# Altium footprint library SOIC18P127_1155X1030X265L83X41N.PcbLib: 1 footprints
Each footprint in its own frame and in the unit in brackets; x right, y up, seen from the top. Pads: shape width x height; smd on the part's side, far side on the other; paste and mask are expansions set on the pad; w line width, h text height; cw(c..) or ccw(c..) is an arc to the next point about the centre after c.
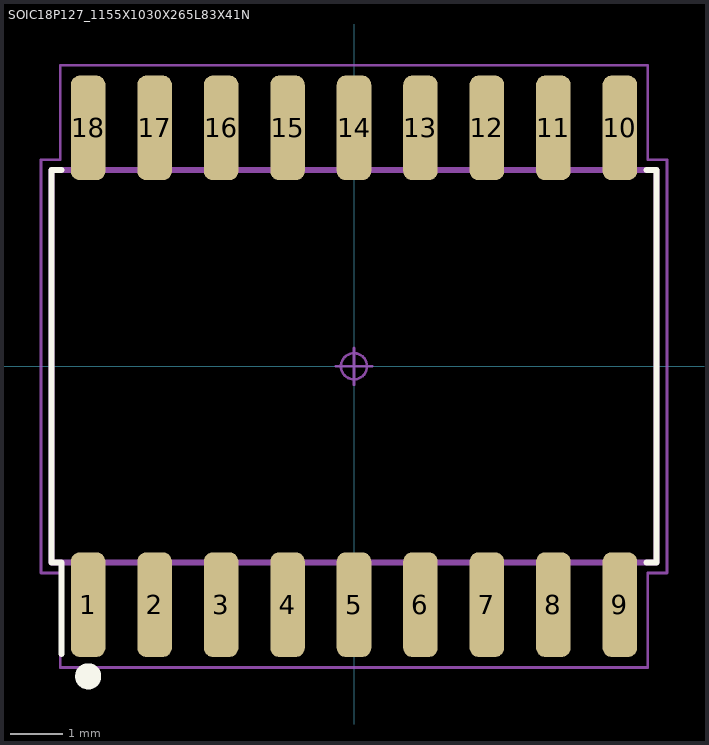
[diagram p0: the footprint, top view; thin cyan lines are the x and y axes]

## SOIC18P127_1155X1030X265L83X41N [mm] "Small Outline IC (SOIC), 1.27 mm pitch; 18 pin, 11.55 mm L X 7.50 mm W X 2.65 mm H body"
height 2.65
pads (18):
  rrect52% 0.66x2 smd: 1(-5.08,-4.555) 2(-3.81,-4.555) 3(-2.54,-4.555) 4(-1.27,-4.555) 5(0,-4.555) 6(1.27,-4.555) 7(2.54,-4.555) 8(3.81,-4.555) 9(5.08,-4.555) 10(5.08,4.555) 11(3.81,4.555) 12(2.54,4.555) 13(1.27,4.555) 14(0,4.555) 15(-1.27,4.555) 16(-2.54,4.555) 17(-3.81,4.555) 18(-5.08,4.555)
Top Overlay:
  circle w0.25: c-5.08,-5.925 r0.125
  lines w0.12: -5.59,-5.495 -5.59,-3.75 -5.78,-3.75 -5.78,3.75 -5.59,3.75 ; 5.59,-3.75 5.78,-3.75 5.78,3.75 5.59,3.75
Mechanical 11:
  lines w0.12: -5.78,-3.75 5.78,-3.75 5.78,3.75 -5.78,3.75 -5.78,-3.75
Mechanical 12:
  lines w0.025: -5.775,-3.75 5.775,-3.75 5.775,3.75 -5.775,3.75 -5.775,-3.75 ; -5.285,-5.15 -5.285,-4.315 -4.875,-4.315 -4.875,-5.15 -5.285,-5.15 ; -5.285,4.315 -5.285,5.15 -4.875,5.15 -4.875,4.315 -5.285,4.315 ; -4.015,-5.15 -4.015,-4.315 -3.605,-4.315 -3.605,-5.15 -4.015,-5.15 ; -4.015,4.315 -4.015,5.15 -3.605,5.15 -3.605,4.315 -4.015,4.315 ; -2.745,-5.15 -2.745,-4.315 -2.335,-4.315 -2.335,-5.15 -2.745,-5.15 ; -2.745,4.315 -2.745,5.15 -2.335,5.15 -2.335,4.315 -2.745,4.315 ; -1.475,-5.15 -1.475,-4.315 -1.065,-4.315 -1.065,-5.15 -1.475,-5.15 ; -1.475,4.315 -1.475,5.15 -1.065,5.15 -1.065,4.315 -1.475,4.315 ; -0.205,-5.15 -0.205,-4.315 0.205,-4.315 0.205,-5.15 -0.205,-5.15 ; -0.205,4.315 -0.205,5.15 0.205,5.15 0.205,4.315 -0.205,4.315 ; 1.065,-5.15 1.065,-4.315 1.475,-4.315 1.475,-5.15 1.065,-5.15 ; 1.065,4.315 1.065,5.15 1.475,5.15 1.475,4.315 1.065,4.315 ; 2.335,-5.15 2.335,-4.315 2.745,-4.315 2.745,-5.15 2.335,-5.15 ; 2.335,4.315 2.335,5.15 2.745,5.15 2.745,4.315 2.335,4.315 ; 3.605,-5.15 3.605,-4.315 4.015,-4.315 4.015,-5.15 3.605,-5.15 ; 3.605,4.315 3.605,5.15 4.015,5.15 4.015,4.315 3.605,4.315 ; 4.875,-5.15 4.875,-4.315 5.285,-4.315 5.285,-5.15 4.875,-5.15 ; 4.875,4.315 4.875,5.15 5.285,5.15 5.285,4.315 4.875,4.315
Mechanical 15:
  circle w0.05: c0,0 r0.25
  lines w0.05: -0.35,0 0.35,0 ; 0,-0.35 0,0.35 ; -5.98,-3.95 -5.61,-3.95 -5.61,-5.755 5.61,-5.755 5.61,-3.95 5.98,-3.95 5.98,3.95 5.61,3.95 5.61,5.755 -5.61,5.755 -5.61,3.95 -5.98,3.95 -5.98,-3.95
Mechanical 16:
  text ".Designator" at 0,0 h1.2
3D body: height 2.65, standoff 0, extent -5.775,-5.15 5.775,5.15